# Altium footprint library LDO 5V 1.5A.PcbLib: 1 footprints
Each footprint in its own frame and in the unit in brackets; x right, y up, seen from the top. Pads: shape width x height; smd on the part's side, far side on the other; paste and mask are expansions set on the pad; w line width, h text height; cw(c..) or ccw(c..) is an arc to the next point about the centre after c.
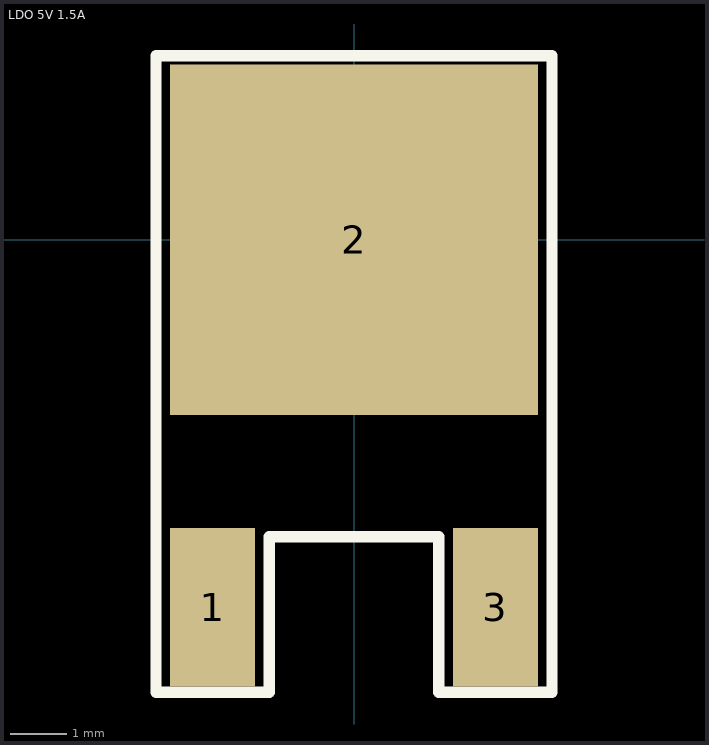
[diagram p0: the footprint, top view; thin cyan lines are the x and y axes]

## LDO 5V 1.5A [mm]
pads (3):
  rect 1.5x2.8 smd: 1(-2.5,-6.5) 3(2.5,-6.5)
  rect 6.5x6.2 smd: 2(0,0)
Top Overlay:
  lines w0.2: -3.5,-8 -3.5,-7.75 -3.5,3.25 3.5,3.25 3.5,-8 1.5,-8 1.5,-5.25 -1.5,-5.25 -1.5,-8 -3.5,-8